# EAGLE library part SOP16 (library ioshub)
TDA1543 NOS Dual SOP16
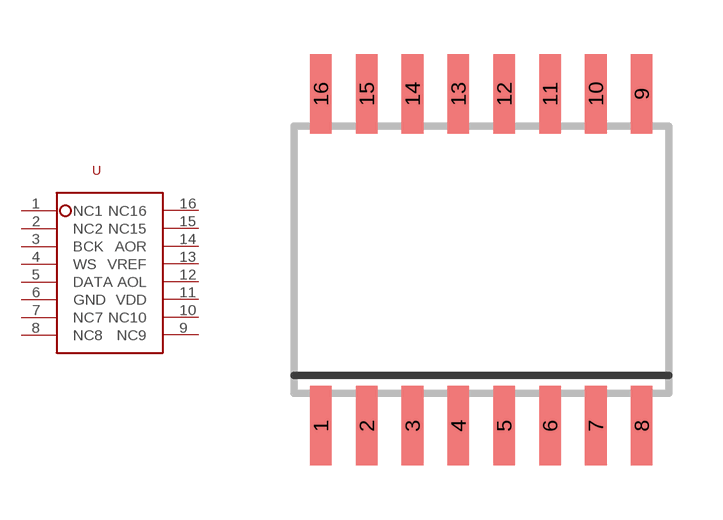
[diagram p12: symbol with the pads of SOP16-NOS; footprint SOP16-NOS]

Designator prefix -

## SOP16  [SOP16-NOS]
1  NC1
2  NC2
3  BCK
4  WS
5  DATA
6  GND
7  NC7
8  NC8
9  NC9
10  NC10
11  VDD
12  AOL
13  VREF
14  AOR
15  NC15
16  NC16

## Footprint SOP16-NOS (pad centres in mm)
TDA1543 NOS Dual SOP16
smd 0.6 x 2.2: 1 -4.445,-4.6; 2 -3.175,-4.6; 3 -1.905,-4.6; 4 -0.635,-4.6; 5 0.635,-4.6; 6 1.905,-4.6; 7 3.175,-4.6; 8 4.445,-4.6; 9 4.445,4.6; 10 3.175,4.6; 11 1.905,4.6; 12 0.635,4.6; 13 -0.635,4.6; 14 -1.905,4.6; 15 -3.175,4.6; 16 -4.445,4.6